# Altium schematic symbol library DC-DC converters (AM6T-Z).SchLib: 1 symbol
Pins are listed as number, name and electrical type; pins without a type are passive.

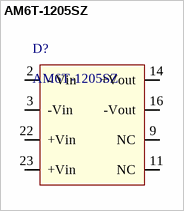
[diagram p0: symbol AM6T-1205SZ]

## AM6T-1205SZ
designator D?
Импульсный DC-DC преобразователь напряжения; Input voltage range: 9-18V; Output voltage: 5V; Iout (max): 1.2A; Efficiency: 77%
footprint AM6T-Z
pins: 2 - Vin, 3 -Vin, 9 NC, 11 NC, 14 +Vout, 16 -Vout, 22 +Vin, 23 +Vin